# EAGLE library part SN74LS32D (library SN74LS32D)
Texas Instruments SN74LS32D, OR Quad 2 Input OR, 4.75 5.25 V, 14-Pin SOIC Source: Datasheet <http://componentsearchengine.com/Datasheets/3/SN74LS32D.pdf>
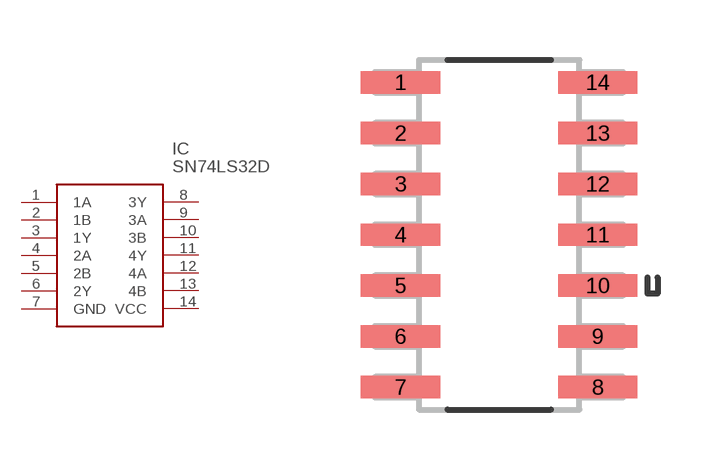
[diagram p0: symbol with the pads of SOIC127P600X175-14N; footprint SOIC127P600X175-14N]

Designator prefix IC

## SN74LS32D (Description: Texas Instruments SN74LS32D, OR Quad 2 Input OR, 4.75 5.25 V, 14-Pin SOIC; Height: mm; Manufacturer_Name: Texas Instruments; Manufacturer_Part_Number: SN74LS32D; Mouser_Part_Number: 595-SN74LS32D; Mouser_Price-Stock: https://www.mouser.com/Search/Refine.aspx?Keyword=595-SN74LS32D; RS_Part_Number: 1792177; RS_Price-Stock: http://uk.rs-online.com/web/p/products/1792177)  [SOIC127P600X175-14N]
1  1A
2  1B
3  1Y
4  2A
5  2B
6  2Y
7  GND
8  3Y
9  3A
10  3B
11  4Y
12  4A
13  4B
14  VCC

## Footprint SOIC127P600X175-14N (pad centres in mm)
SOIC127P600X175-14N
smd 1.981 x 0.559: 1 -2.464,3.81; 2 -2.464,2.54; 3 -2.464,1.27; 4 -2.464,0; 5 -2.464,-1.27; 6 -2.464,-2.54; 7 -2.464,-3.81; 8 2.464,-3.81; 9 2.464,-2.54; 10 2.464,-1.27; 11 2.464,0; 12 2.464,1.27; 13 2.464,2.54; 14 2.464,3.81